# Altium footprint library CAPACITOR.PcbLib: 20 footprints (part 1 of 2)
Each footprint in its own frame and in the unit in brackets; x right, y up, seen from the top. Pads: shape width x height; smd on the part's side, far side on the other; paste and mask are expansions set on the pad; w line width, h text height; cw(c..) or ccw(c..) is an arc to the next point about the centre after c.
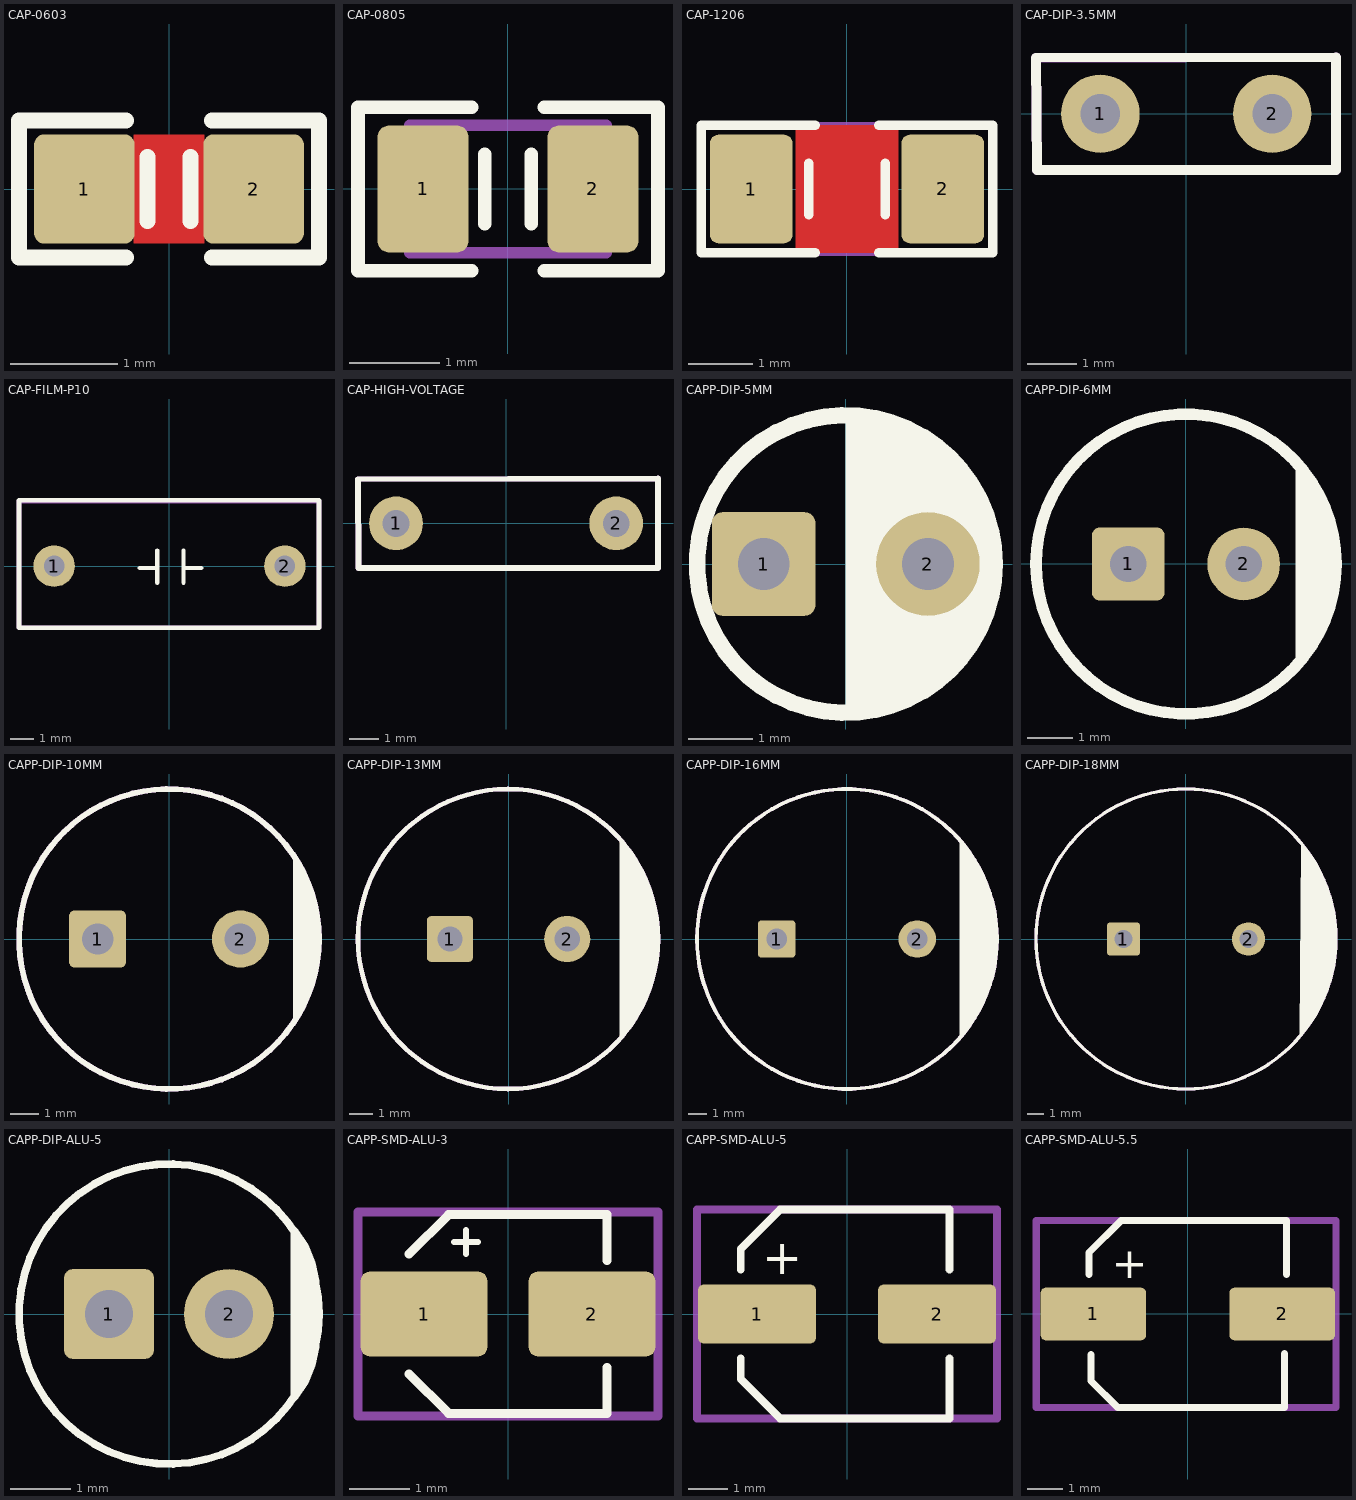
[diagram p0: the footprints below, top view; thin cyan lines are the x and y axes]

## CAP-0603 [mm]
pads (2):
  rrect20% 0.94x1.02 smd: 1(-0.79,0) 2(0.79,0)
Top Layer:
  pour cut-out: -0.33,0.508 -0.33,-0.508 0.33,-0.508 0.33,0.508
Top Overlay:
  lines w0.15: -0.4,-0.64 -1.4,-0.64 -1.4,0.64 -0.4,0.64 ; -0.2,-0.3 -0.2,0.3 ; 0.2,-0.3 0.2,0.3 ; 0.4,-0.64 1.4,-0.64 1.4,0.64 0.4,0.64
3D body "CAPC-0603-T0.9-BN.stp": height 0.9, standoff 0, extent -0.85,-0.45 0.85,0.45

## CAP-0805 [mm]
pads (2):
  rrect25% 1x1.4 smd: 1(-0.935,0) 2(0.935,0)
Top Overlay:
  lines w0.15: -0.4,-0.9 -1.651,-0.9 -1.651,0.9 -0.4,0.9 ; -0.254,-0.381 -0.254,0.381 ; 0.254,-0.381 0.254,0.381 ; 0.4,-0.9 1.651,-0.9 1.651,0.9 0.4,0.9
Mechanical 13:
  lines w0.127: -1.08,-0.7 1.08,-0.7 1.08,0.7 -1.08,0.7 -1.08,-0.7
3D body "CAPC-0805-T1.35-BN.stp": height 1.35, standoff 0, extent -1.05,-0.675 1.05,0.675

## CAP-1206 [mm]
pads (2):
  rrect20% 1.3x1.7 smd: 1(-1.5,0) 2(1.5,0)
Top Layer:
  pour cut-out: -0.8,1 -0.8,-1 0.8,-1 0.8,1
Top Overlay:
  lines w0.15: -0.6,-0.4 -0.6,0.4 ; -0.5,-1 -2.286,-1 -2.286,1 -0.5,1 ; 0.5,-1 2.286,-1 2.286,1 0.5,1 ; 0.6,-0.4 0.6,0.4
Mechanical 13:
  lines w0.1: -2.286,-1 0.8,-1 2.286,-1 2.286,1 0.8,1 -2.286,1 -2.286,-1
3D body "CAPC-1206-T1.4-BN.stp": height 1.4, standoff 0, extent -1.675,-0.875 1.675,0.875

## CAP-DIP-3.5MM [mm]
pads (2):
  round 1.6 hole 0.8: 1(-1.75,0) 2(1.75,0)
Top Overlay:
  lines w0.2: -3.06,1.138 -3.042,-1.143 3.048,-1.143 3.048,1.151 -3.06,1.138
Mechanical 13:
  lines w0.2: -3.061,1.137 -3.043,-1.143 3.048,-1.143 3.048,1.15 -3.061,1.137
Mechanical 29:
  text ".Designator" at -2.921,-0.508 h1.02
3D body "Capacitor.STEP": height 6.5, standoff -3.5, extent -2.5,-0.975 2.5,0.975

## CAP-FILM-P10 [mm]
height 5.08
pads (2):
  round 1.8 hole 0.9: 1(-5,0) 2(5,0)
Top Overlay:
  lines w0.178: -1.292,-0.089 -0.53,-0.089 ; -0.53,-0.724 -0.53,0.673 ; 0.613,-0.724 0.613,0.673 ; 0.613,-0.089 1.375,-0.089
  lines w0.2: -6.524,-2.667 -6.524,2.845 6.481,2.845 6.481,-2.667 -6.524,-2.667
Mechanical 13:
  lines w0.2: -6.524,-2.667 -6.524,2.819 6.481,2.819 6.481,-2.667 -6.524,-2.667
3D body "Film Capacitors L13xW5,5xH11mm 100nF 400V.stp": height 11, standoff -3, extent -6.494,-2.699 6.506,2.801

## CAP-HIGH-VOLTAGE [mm]
pads (2):
  round 1.8 hole 0.9: 1(-3.683,0) 2(3.683,0)
Top Overlay:
  lines w0.2: -4.957,1.476 5.08,1.496 5.08,-1.499 -4.933,-1.499 -4.957,1.476
Mechanical 13:
  lines w0.2: -4.957,1.476 5.08,1.496 5.08,-1.499 -4.933,-1.499 -4.957,1.476
Mechanical 29:
  text ".Designator" at -2.921,-0.508 h1.02
3D body "User Library-Y2222.STEP": height 8.1, standoff -3.5, extent -4.311,-3.038 4.311,3.038

## CAPP-DIP-5MM [mm]
pads (2):
  rrect20% 1.6x1.6 hole 0.8: 1(-1.27,0)
  round 1.6 hole 0.8: 2(1.27,0)
Top Overlay:
  circle w0.254: c1.27,0 r0.914
  circle w0.254: c0,0 r2.3
  region: 0,-2.311 0,2.286 0.025,2.311 0.249,2.311 0.687,2.224 1.1,2.053 1.472,1.805 1.63,1.647 1.816,1.461 1.94,1.337 2.134,1.046 2.268,0.722 2.337,0.378 2.337,0.203 2.337,0.025 2.198,0.164 2.177,0.186 2.143,0.236 2.12,0.292 2.108,0.351 2.108,0.381 1.854,0.711 1.524,0.864 0.991,0.864 0.559,0.635 0.406,0.203 0.406,-0.33 0.66,-0.711 0.889,-0.813 1.194,-0.889 1.575,-0.864 1.803,-0.686 2.083,-0.508 2.261,-0.483 2.21,-0.838 1.778,-1.575 0.813,-2.159 0.203,-2.311
3D body "4.7uF 50V electr 5 x11mm -P.diameter 2.5mm.stp": height 11.13, standoff -3.97, extent -2.5,-2.498 2.5,2.498

## CAPP-DIP-6MM [mm]
pads (2):
  rrect20% 1.6x1.6 hole 0.8: 1(-1.27,0)
  round 1.6 hole 0.8: 2(1.27,0)
Top Overlay:
  circle w0.254: c0,0 r3.302
  region: 2.54,2.032 2.54,-2.032 2.558,-2.014 2.735,-1.837 3.013,-1.421 3.204,-0.959 3.302,-0.468 3.302,-0.218 3.302,0.218 3.302,0.468 3.204,0.959 3.013,1.421 2.735,1.837 2.558,2.014
  lines w0.254: 2.54,-2.032 2.54,2.032
3D body "Aluminum Electrolytic Capacitor D6,3mm H11,0mm P2,5mm LD 0,5mm.stp": height 11.36, standoff -2.75, extent -3.15,-3.148 3.15,3.15

## CAPP-DIP-10MM [mm] "Aluminium Electrolytic Radial THD Capacitors, 10x16mm"
height 16
pads (2):
  rrect20% 2x2 hole 1.1 mask+0.075: 1(-2.5,0)
  round 2 hole 1.1 mask+0.075: 2(2.5,0)
Top Overlay:
  circle w0.2: c0,0 r5.25
  region: 4.445,-2.769 4.445,2.769 4.456,2.776 4.585,2.569 4.804,2.132 4.981,1.678 5.115,1.209 5.205,0.73 5.25,0.244 5.25,-0.244 5.205,-0.73 5.115,-1.209 4.981,-1.678 4.804,-2.132 4.585,-2.569 4.456,-2.776
  lines w0.2: 4.445,-2.769 4.445,2.769
Mechanical 13:
  circle w0.2: c0,0 r5.25
3D body "1000uF 16V electr 10 x16mm -P.diameter 5mm.stp": height 16.13, standoff -3.97, extent -5,-4.999 5,4.999

## CAPP-DIP-13MM [mm]
height 25
pads (2):
  rrect20% 2x2 hole 1.1 mask+0.075: 1(-2.54,0)
  round 2 hole 1.1 mask+0.075: 2(2.54,0)
Top Overlay:
  circle w0.2: c-0.025,0 r6.5
  region: 4.902,-4.191 4.902,4.216 4.912,4.228 5.161,3.937 5.587,3.3 5.936,2.618 6.203,1.9 6.383,1.155 6.474,0.394 6.475,-0.372 6.387,-1.133 6.209,-1.879 5.945,-2.598 5.599,-3.281 5.174,-3.919 4.926,-4.211
  lines w0.2: 4.902,-4.191 4.902,4.216
Mechanical 13:
  circle w0.2: c-0.025,0 r6.5
3D body "1000uF 25V electr 13 x20mm -P.diameter 5.5mm.stp": height 20.13, standoff -3.97, extent -6.5,-6.5 6.5,6.5

## CAPP-DIP-16MM [mm]
height 25
pads (2):
  rrect20% 2x2 hole 1.1 mask+0.075: 1(-3.75,0)
  round 2 hole 1.1 mask+0.075: 2(3.75,0)
Top Overlay:
  circle w0.2: c0,0 r8
  region: 6.092,-5.185 6.32,-4.917 6.727,-4.344 7.082,-3.737 7.383,-3.101 7.626,-2.441 7.811,-1.763 7.936,-1.071 7.999,-0.37 8.001,0.333 7.941,1.033 7.819,1.726 7.638,2.405 7.397,3.066 7.1,3.703 6.748,4.312 6.343,4.887 6.117,5.156 6.096,5.139
  lines w0.2: 6.096,-5.156 6.096,5.156
Mechanical 13:
  circle w0.2: c0,0 r8
3D body "1000uF 50V electr 16 x26mm -P.diameter 8mm.stp": height 26.13, standoff -3.97, extent -8,-7.999 8,7.999

## CAPP-DIP-18MM [mm]
height 25
pads (2):
  rrect20% 2x2 hole 1.1 mask+0.075: 1(-3.75,0)
  round 2 hole 1.1 mask+0.075: 2(3.75,0)
Top Overlay:
  circle w0.2: c0,0 r9
  region: 6.909,-5.766 7.01,5.588 7.038,5.61 7.278,5.309 7.705,4.668 8.075,3.992 8.387,3.288 8.637,2.56 8.824,1.812 8.947,1.052 9.004,0.284 8.995,-0.486 8.921,-1.253 8.781,-2.01 8.577,-2.753 8.311,-3.476 7.983,-4.173 7.598,-4.84 7.157,-5.471 6.91,-5.767
  lines w0.2: 6.909,-5.766 7.01,5.588
Mechanical 13:
  circle w0.2: c0,0 r9
3D body "Aluminum_electrolytic_capacitor_radial_D18_H25_PinD0.8_Pitch7.5_nominal_black.step": height 25, standoff -3, extent -9,-8.997 9,8.997

## CAPP-DIP-ALU-5 [mm] "Polarized capacitors, Aluminum Electrolytic Capacitors, 2-Leads, Body 5x11x2x0.5"
height 11
pads (2):
  rrect20% 1.5x1.5 hole 0.8: 1(-1,0)
  round 1.5 hole 0.8: 2(1,0)
Top Overlay:
  circle w0.127: c0,0 r2.5
  region: 2.032,1.524 2.032,-1.524 2.143,-1.413 2.318,-1.151 2.439,-0.86 2.5,-0.552 2.5,-0.394 2.5,0.394 2.5,0.552 2.439,0.86 2.318,1.151 2.143,1.413

## CAPP-SMD-ALU-3 [mm]
height 5.4
pads (2):
  rrect20% 2.11x1.41 smd: 1(-1.4,0) 2(1.4,0)
Top Overlay:
  lines w0.1: -0.9,1.2 -0.5,1.2 ; -0.7,1 -0.7,1.4
  lines w0.15: -1.65,-1 -0.99,-1.655 1.65,-1.655 1.65,-0.89 ; -1.65,1 -0.99,1.655 1.65,1.655 1.65,0.89
Mechanical 13:
  lines w0.15: -2.5,-1.7 -2.5,1.7 2.5,1.7 2.5,-1.7 -2.5,-1.7
Mechanical 15:
  lines w0.15: -2.5,-1.7 2.5,-1.7 2.5,1.7 -2.5,1.7 -2.5,-1.7
3D body "CAP-ALU-SMD-AE330X540.STEP": height 5.4, standoff 0, extent -1.9,-1.65 1.9,1.65

## CAPP-SMD-ALU-5 [mm]
pads (2):
  rrect20% 3x1.5 smd: 1(-2.286,0) 2(2.286,0)
Top Overlay:
  lines w0.2: -2.7,-1.126 -2.7,-1.65 -1.7,-2.65 2.6,-2.65 2.6,-1.126 ; -2.7,1.126 -2.7,1.65 -1.7,2.65 2.6,2.65 2.6,1.126
  text "+" at -2.159,1.016 h0.89
Mechanical 13:
  lines w0.2: -3.81,-2.65 -3.81,-0.458 -3.81,2.65 3.81,2.65 3.81,0.084 3.81,-2.65 -3.81,-2.65
Mechanical 15:
  lines w0.2: -3.81,-2.65 3.81,-2.65 3.81,0.084 3.81,2.65 -3.81,2.65 -3.81,-0.458 -3.81,-2.65
3D body "User Library-ALU-C.STEP": height 5.41, standoff 0, extent -2.95,-2.65 2.95,2.65

## CAPP-SMD-ALU-5.5 [mm]
pads (2):
  rrect20% 3x1.5 smd: 1(-2.68,0) 2(2.68,0)
Top Overlay:
  lines w0.2: -2.8,1.126 -2.8,1.75 -1.9,2.65 2.8,2.65 2.8,1.126 ; -2.75,-1.15 -2.75,-1.9 -2,-2.65 2.75,-2.65 2.75,-1.126
  text "+" at -2.159,1.016 h0.89
Mechanical 13:
  lines w0.2: -4.3,-2.65 4.21,-2.65 4.21,0.084 4.21,2.65 -4.3,2.65 -4.3,-0.458 -4.3,-2.65
Mechanical 15:
  lines w0.2: -4.31,-2.65 -4.31,-0.458 -4.31,2.65 4.21,2.65 4.21,0.084 4.21,-2.65 -4.31,-2.65
3D body "CAP_EEE_C.stp": height 5.56, standoff 0, extent -3.251,-2.756 3.251,2.756